# Altium footprint library hxz.PcbLib: 17 footprints (part 1 of 2)
Each footprint in its own frame and in the unit in brackets; x right, y up, seen from the top. Pads: shape width x height; smd on the part's side, far side on the other; paste and mask are expansions set on the pad; w line width, h text height; cw(c..) or ccw(c..) is an arc to the next point about the centre after c.
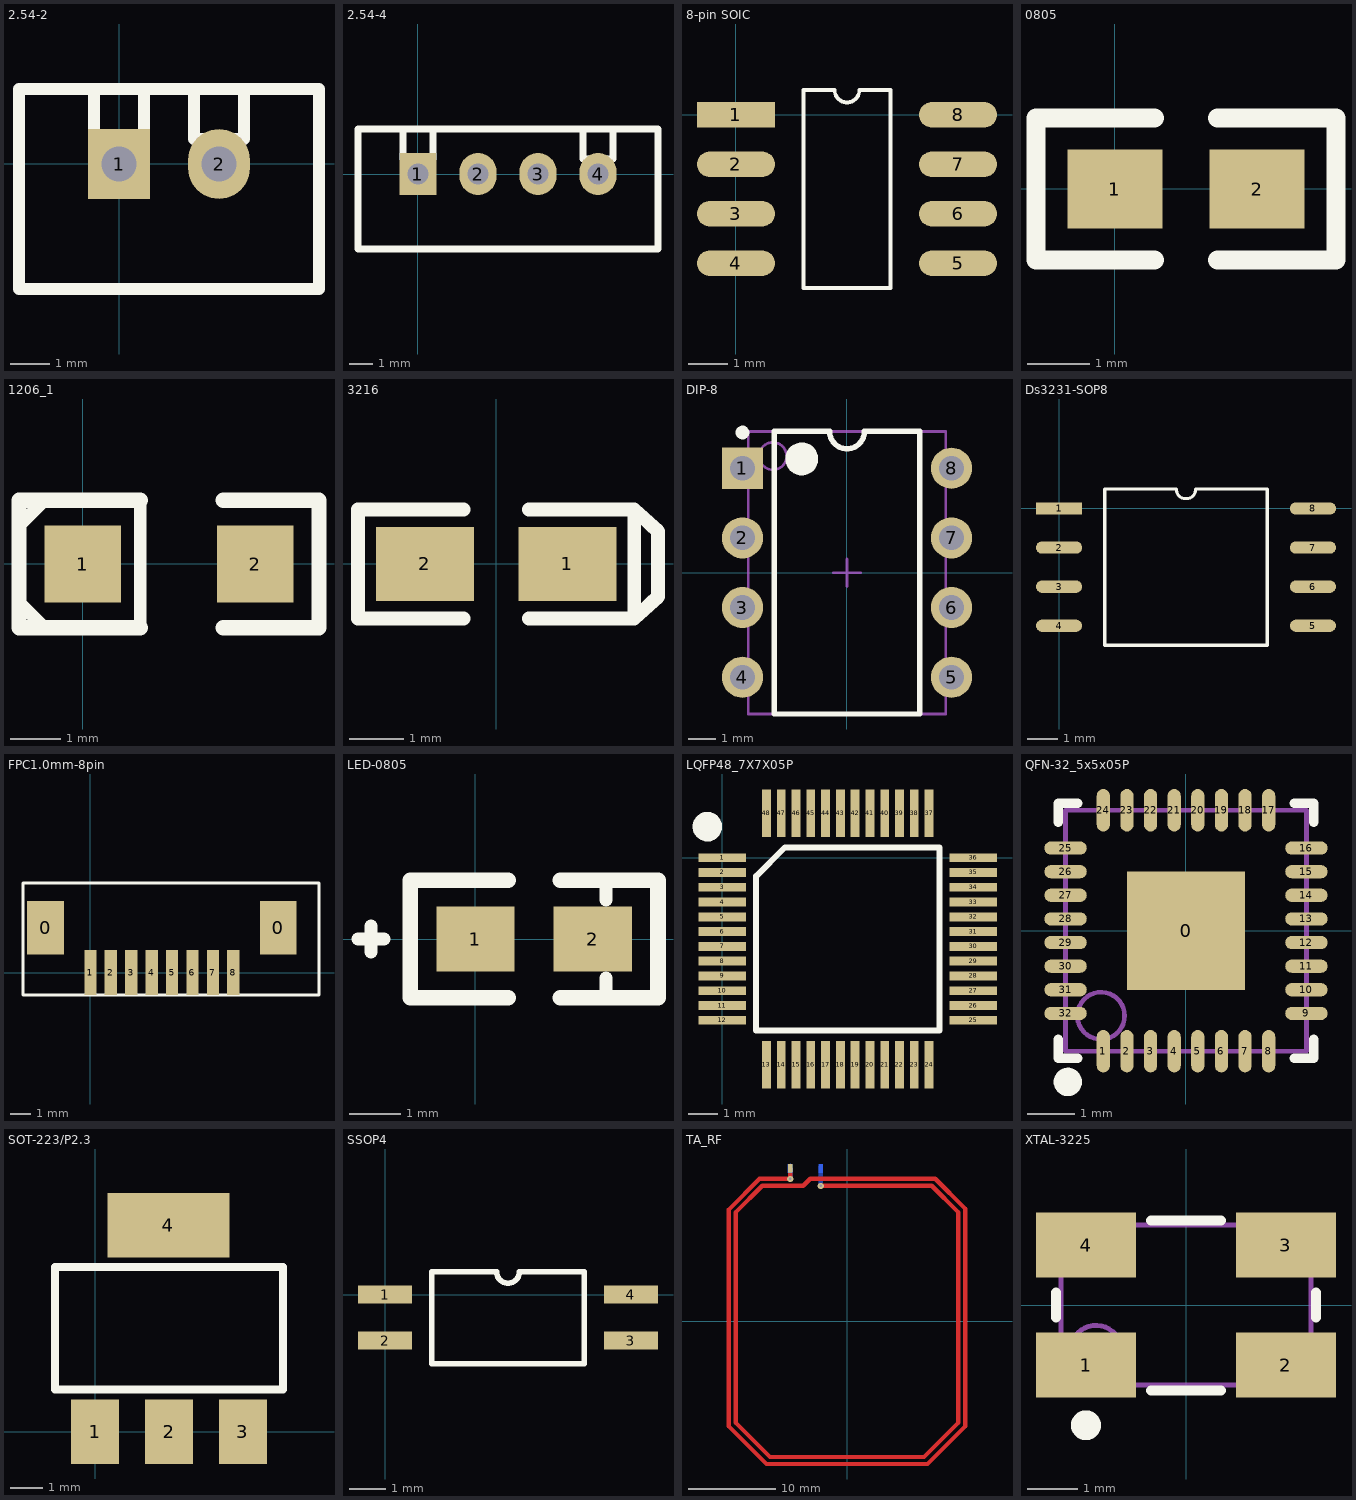
[diagram p0: the footprints below, top view; thin cyan lines are the x and y axes]

## 2.54-2 [mil]
pads (2):
  rect 62x70 hole 35: 1(0,0)
  oval 62x70 hole 35: 2(100,0)
Top Overlay:
  lines w12: -25,75 -25,25 ; 25,75 25,25 ; 75,75 75,25 125,25 125,75 ; -25,25 25,25 ; -25,25 25,25 ; -100,-125 200,-125 200,75 -100,75 -100,-125

## 2.54-4 [mil]
pads (4):
  rect 62x70 hole 35: 1(0,0)
  oval 62x70 hole 35: 2(100,0) 3(200,0) 4(300,0)
Top Overlay:
  lines w12: -25,75 -25,25 ; 25,75 25,25 ; 275,75 275,25 325,25 325,75 ; -25,25 25,25 ; -25,25 25,25 ; -100,-125 400,-125 400,75 -100,75 -100,-125

## 8-pin SOIC [mm]
pads (8):
  rect 2x0.65 smd: 1(0,0)
  oval 2x0.65 smd: 2(0,-1.27) 3(0,-2.54) 4(0,-3.81) 5(5.7,-3.81) 6(5.7,-2.54) 7(5.7,-1.27) 8(5.7,0)
Top Overlay:
  lines w0.1: 1.735,-4.445 3.965,-4.445 3.965,0.635 3.167,0.635 cw(c2.85,0.635) 2.532,0.635 1.735,0.635 1.735,-4.445

## 0805 [mil]
height 10
pads (2):
  rect 60x50 smd: 1(0,0) 2(90,0)
Top Overlay:
  lines w12: 25,-45 -50,-45 -50,45 25,45 ; 65,-45 140,-45 140,45 65,45

## 1206_1 [mil]
pads (2):
  rect 60x60 smd: 1(0,0) 2(135,0)
Top Overlay:
  lines w10: -50,-25 -50,-30 -30,-50 ; -50,30 -30,50 ; 45,-50 45,50
  lines w12: 45,-50 -50,-50 -50,50 45,50 ; 110,-50 185,-50 185,50 110,50

## 3216 [mm]
pads (2):
  rect 1.8x1.35 smd: 1(1.31,0) 2(-1.31,0)
Top Overlay:
  lines w0.254: -0.6,-1.002 -2.537,-1.002 -2.537,1.002 -0.6,1.002 ; 0.6,-1.002 2.537,-1.002 ; 0.6,1.002 2.537,1.002 ; 2.537,-1.002 2.537,1.002 ; 2.537,-1.002 2.973,-0.6 2.973,0.6 2.537,1.002
3D body: height 1.71, standoff 0, extent -1.7,-0.84 1.7,0.84

## DIP-8 [mm] "DIP; 8 Leads; Row Spacing 7.62 mm; Pitch 2.54 mm"
height 5.08
pads (8):
  rect 1.5x1.5 hole 0.9: 1(-3.81,3.81)
  round 1.5 hole 0.9: 2(-3.81,1.27) 3(-3.81,-1.27) 4(-3.81,-3.81) 5(3.81,-3.81) 6(3.81,-1.27) 7(3.81,1.27) 8(3.81,3.81)
Top Overlay:
  circle w0.6: c-1.65,4.15 r0.3
  circle w0.25: c-3.81,5.11 r0.125
  lines w0.2: -2.65,-5.15 2.65,-5.15 2.65,5.15 0.635,5.15 cw(c0,5.15) -0.635,5.15 -2.65,5.15 -2.65,-5.15
Mechanical 13:
  circle w0.1: c-2.7,4.25 r0.5
  lines w0.1: -3.6,-5.15 3.6,-5.15 3.6,5.15 -3.6,5.15 -3.6,-5.15
Mechanical 15:
  lines w0.1: -0.5,0 0.5,0 ; 0,-0.5 0,0.5
3D body: height 5.08, standoff 0, extent -3.6,-5.15 3.6,5.15

## Ds3231-SOP8 [mm]
pads (8):
  rect 1.5x0.4 smd: 1(0,0)
  oval 1.5x0.4 smd: 2(0,-1.27) 3(0,-2.54) 4(0,-3.81) 5(8.25,-3.81) 6(8.25,-2.54) 7(8.25,-1.27) 8(8.25,0)
Top Overlay:
  lines w0.1: 1.485,-4.445 1.485,0.635 3.807,0.635 ccw(c4.125,0.635) 4.442,0.635 6.765,0.635 6.765,-4.445 1.485,-4.445

## FPC1.0mm-8pin [mm]
pads (10):
  rect 1.8x2.6 smd: 0(-2.2,2.2) 0(9.2,2.2)
  rect 0.6x2.2 smd: 1(0,0) 2(1,0) 3(2,0) 4(3,0) 5(4,0) 6(5,0) 7(6,0) 8(7,0)
Top Overlay:
  lines w0.152: -3.3,-1.1 -3.3,4.4 11.2,4.4 11.2,-1.1 -3.3,-1.1

## LED-0805 [mil]
pads (2):
  rect 60x50 smd: 1(0,0) 2(90,0)
Top Overlay:
  lines w10: -90,0 -70,0 ; -80,-10 -80,10 ; 100,-45 100,-30 ; 100,30 100,45
  lines w12: 25,-45 -50,-45 -50,45 25,45 ; 65,-45 140,-45 140,45 65,45

## LQFP48_7X7X05P [mm]
pads (48):
  rect 1.6x0.3 smd: 1(0,0) 2(0,-0.5) 3(0,-1) 4(0,-1.5) 5(0,-2) 6(0,-2.5) 7(0,-3) 8(0,-3.5) 9(0,-4) 10(0,-4.5) 11(0,-5) 12(0,-5.5) 25(8.5,-5.5) 26(8.5,-5) 27(8.5,-4.5) 28(8.5,-4) 29(8.5,-3.5) 30(8.5,-3) 31(8.5,-2.5) 32(8.5,-2) 33(8.5,-1.5) 34(8.5,-1) 35(8.5,-0.5) 36(8.5,0)
  rect 0.3x1.6 smd: 13(1.5,-7) 14(2,-7) 15(2.5,-7) 16(3,-7) 17(3.5,-7) 18(4,-7) 19(4.5,-7) 20(5,-7) 21(5.5,-7) 22(6,-7) 23(6.5,-7) 24(7,-7) 37(7,1.5) 38(6.5,1.5) 39(6,1.5) 40(5.5,1.5) 41(5,1.5) 42(4.5,1.5) 43(4,1.5) 44(3.5,1.5) 45(3,1.5) 46(2.5,1.5) 47(2,1.5) 48(1.5,1.5)
Top Overlay:
  circle w0.25: c-0.55,1.025 r0.3
  circle w0.5: c-0.5,1.05 r0.25
  lines w0.2: 1.15,-5.85 7.35,-5.85 7.35,0.35 2.125,0.35 1.15,-0.625 1.15,-5.85

## QFN-32_5x5x05P [mm]
pads (33):
  rect 2.5x2.5 smd paste-1.75 mask+0.051: 0(0,0)
  oval 0.28x0.9 smd mask+0.051: 1(-1.75,-2.55) 2(-1.25,-2.55) 3(-0.75,-2.55) 4(-0.25,-2.55) 5(0.25,-2.55) 6(0.75,-2.55) 7(1.25,-2.55) 8(1.75,-2.55) 17(1.75,2.55) 18(1.25,2.55) 19(0.75,2.55) 20(0.25,2.55) 21(-0.25,2.55) 22(-0.75,2.55) 23(-1.25,2.55) 24(-1.75,2.55)
  oval 0.9x0.28 smd mask+0.051: 9(2.55,-1.75) 10(2.55,-1.25) 11(2.55,-0.75) 12(2.55,-0.25) 13(2.55,0.25) 14(2.55,0.75) 15(2.55,1.25) 16(2.55,1.75) 25(-2.55,1.75) 26(-2.55,1.25) 27(-2.55,0.75) 28(-2.55,0.25) 29(-2.55,-0.25) 30(-2.55,-0.75) 31(-2.55,-1.25) 32(-2.55,-1.75)
Top Overlay:
  circle w0.3: c-2.5,-3.2 r0.15
  lines w0.2: -2.7,-2.295 -2.7,-2.7 -2.295,-2.7 ; -2.7,2.295 -2.7,2.7 -2.295,2.7 ; 2.295,-2.7 2.7,-2.7 2.7,-2.295 ; 2.295,2.7 2.7,2.7 2.7,2.295
Mechanical 13:
  circle w0.1: c-1.8,-1.8 r0.5
  lines w0.1: -2.55,-2.55 2.55,-2.55 2.55,2.55 -2.55,2.55 -2.55,-2.55

## SOT-223/P2.3 [mil]
pads (4):
  rect 59x79 smd: 1(0,0) 2(90.55,0) 3(181.1,0)
  rect 150x79 smd: 4(89.88,253.54)
Top Overlay:
  lines w10: -49.45,52 230.55,52 230.55,202 -49.45,202 -49.45,52

## SSOP4 [mm]
height 1.1
pads (4):
  rect 1.5x0.5 smd: 1(0,0) 2(0,-1.27) 3(6.8,-1.27) 4(6.8,0)
Top Overlay:
  lines w0.153: 1.288,-1.905 1.288,0.635 3.083,0.635 ccw(c3.4,0.635) 3.717,0.635 5.512,0.635 5.512,-1.905 1.288,-1.905

## TA_RF [mm]
height 1.1
pads (3):
  rect 0.5x1 smd far side: 1(-6.5,17.5) 2(-3,17.5)
  rect 0.5x1 smd: 1(-6.5,17.5)
via -6.5,16.3 diameter 0.711 hole 0.305
via -3,15.5 diameter 0.711 hole 0.305
Top Layer:
  lines w0.5: -6.5,17.5 -6.5,16.3 -10,16.3 -13.5,12.8 -13.5,-12 -9.2,-16.3 9.2,-16.3 13.5,-12 13.5,12.9 10.1,16.3 -3,16.3 -4.2,16.3 -5,15.5 -6.5,15.5 -9.7,15.5 -12.7,12.5 -12.7,-11.6 -8.8,-15.5 8.8,-15.5 12.7,-11.6 12.7,12.5 9.7,15.5 -3,15.5
Bottom Layer:
  lines w0.5: -6.5,16.3 -6.5,17.5 -6.5,17.8 ; -3,15.5 -3,17.5 -3,17.7

## XTAL-3225 [mm]
pads (4):
  rect 2x1.3 smd: 1(-2,-1.2) 2(2,-1.2) 3(2,1.2) 4(-2,1.2)
Top Overlay:
  circle w0.3: c-2,-2.4 r0.15
  lines w0.2: -2.6,-0.25 -2.6,0.25 ; -0.7,-1.7 0.7,-1.7 ; -0.7,1.7 0.7,1.7 ; 2.6,-0.25 2.6,0.25
Mechanical 13:
  circle w0.1: c-1.8,-0.9 r0.5
  lines w0.1: -2.5,-1.6 2.5,-1.6 2.5,1.6 -2.5,1.6 -2.5,-1.6